# Altium footprint library SecureBot.PcbLib: 71 footprints (part 2 of 5)
Each footprint in its own frame and in the unit in brackets; x right, y up, seen from the top. Pads: shape width x height; smd on the part's side, far side on the other; paste and mask are expansions set on the pad; w line width, h text height; cw(c..) or ccw(c..) is an arc to the next point about the centre after c.
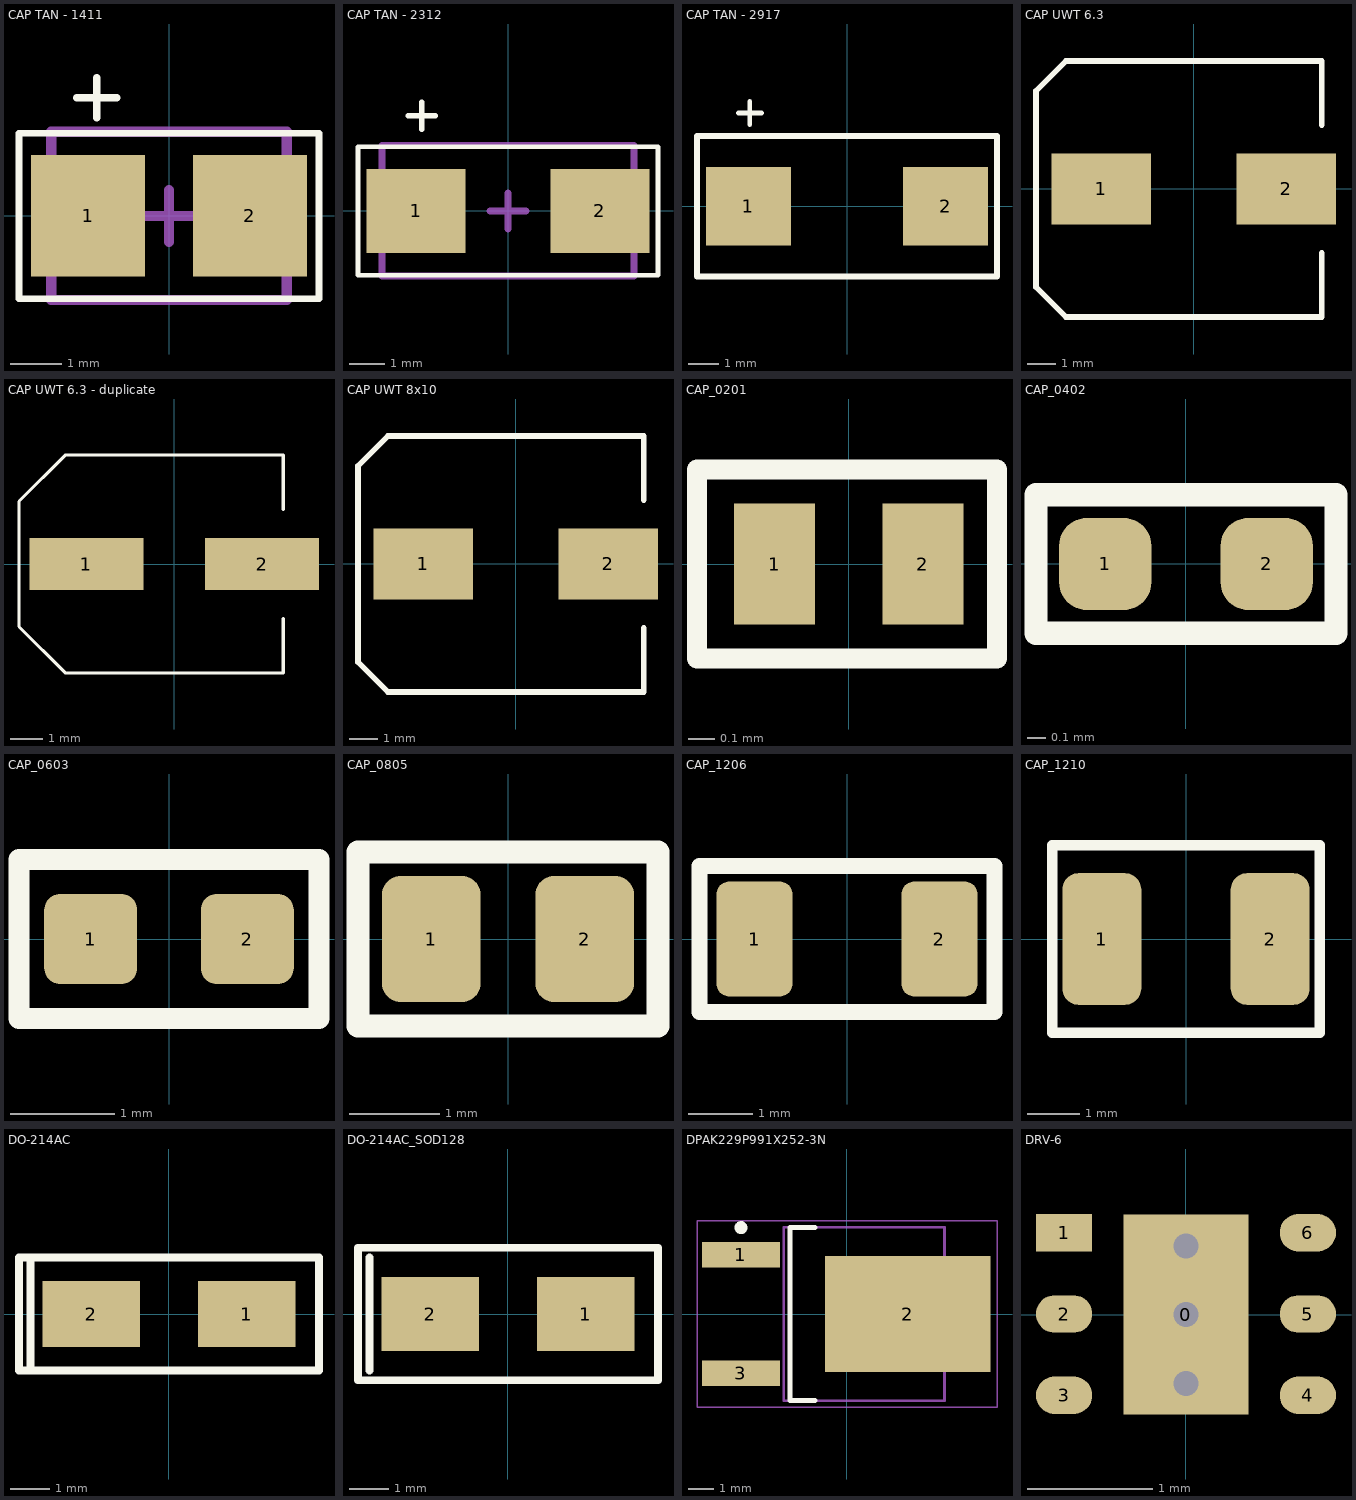
[diagram p1: the footprints below, top view; thin cyan lines are the x and y axes]

## CAP TAN - 1411 [mm]
pads (2):
  rect 2.21x2.35 smd: 1(-1.565,0) 2(1.565,0)
Top Overlay:
  lines w0.127: -2.9,-1.6 2.9,-1.6 2.9,1.6 -2.9,1.6 -2.9,-1.6
  lines w0.152: -1.778,2.286 -1.016,2.286 ; -1.397,1.905 -1.397,2.667
Mechanical 1:
  lines w0.2: -0.5,0 0,0 ; 0,-0.5 0,0 ; 0,0.5 0,0 ; 0.5,0 0,0 ; -2.275,-1.625 2.275,-1.625 2.275,1.625 -2.275,1.625 -2.275,-1.625
3D body "User Library-QT02752.step": height 1.92, standoff 0.01, extent -1.831,-1.4 1.832,1.4

## CAP TAN - 2312 [mm]
pads (2):
  rect 2.77x2.35 smd: 1(-2.57,0) 2(2.57,0)
Top Overlay:
  lines w0.127: -4.2,-1.8 4.2,-1.8 4.2,1.8 -4.2,1.8 -4.2,-1.8
  lines w0.152: -2.794,2.667 -2.032,2.667 ; -2.413,2.286 -2.413,3.048
Mechanical 1:
  lines w0.2: -0.5,0 0,0 ; 0,-0.5 0,0 ; 0,0.5 0,0 ; 0.5,0 0,0 ; -3.525,-1.825 3.525,-1.825 3.525,1.825 -3.525,1.825 -3.525,-1.825
3D body "User Library-C_case.STEP": height 2.7, standoff 0, extent -3.05,-1.675 3.05,1.675

## CAP TAN - 2917 [mm]
pads (2):
  rect 2.77x2.55 smd: 1(-3.22,0)
  rect 2.77x2.55 smd paste-0.3 mask-0.11: 2(3.22,0)
Top Overlay:
  lines w0.152: -3.556,3.048 -2.794,3.048 ; -3.175,2.667 -3.175,3.429
  lines w0.2: -4.9,-2.3 -4.9,2.3 4.9,2.3 4.9,-2.3 -4.9,-2.3
3D body "CapTantCASE_D.step": height 3.1, standoff 0, extent -3.673,-2.3 3.927,2.3

## CAP UWT 6.3 [mm]
pads (2):
  rect 3.5x2.5 smd: 1(-3.25,0) 2(3.25,0)
Top Overlay:
  lines w0.2: 4.5,-2.25 4.5,-4.5 -4.5,-4.5 -5.55,-3.45 -5.55,3.45 -4.5,4.5 4.5,4.5 4.5,2.25

## CAP UWT 6.3 - duplicate [mm]
pads (2):
  rect 3.5x1.6 smd: 1(-2.7,0) 2(2.7,0)
Top Overlay:
  lines w0.1: 3.35,-1.675 3.35,-3.35 -3.35,-3.35 -4.775,-1.925 -4.775,1.925 -3.35,3.35 3.35,3.35 3.35,1.675

## CAP UWT 8x10 [mm]
pads (2):
  rect 3.5x2.5 smd: 1(-3.25,0) 2(3.25,0)
Top Overlay:
  lines w0.2: 4.5,-2.25 4.5,-4.5 -4.5,-4.5 -5.55,-3.45 -5.55,3.45 -4.5,4.5 4.5,4.5 4.5,2.25

## CAP_0201 [mil]
pads (2):
  rect 12x18 smd: 1(-11,0) 2(11,0)
Top Overlay:
  lines w3: -22.5,-14 -22.5,14 22,14 22,-14 -22.5,-14
3D body "Cap0201.step": height 11.81, standoff 0, extent -11.81,-5.81 11.81,6

## CAP_0402 [mil]
pads (2):
  rrect60% 20x20 smd: 1(-17.5,0) 2(17.5,0)
Top Overlay:
  lines w5: -32.5,-15 32.5,-15 32.5,15 -32.5,15 -32.5,-15
3D body "Cap0402.step": height 19.68, standoff 0, extent -19.37,-9.69 20,10

## CAP_0603 [mil]
pads (2):
  rrect35% 35x34 smd: 1(-29.5,0) 2(29.5,0)
Top Overlay:
  lines w7.87: -56.5,-30 -56.5,30 56.5,30 56.5,-30 -56.5,-30
3D body "Cap0603.step": height 35.43, standoff 0, extent -31.5,-15.75 31.49,15.75

## CAP_0805 [mil]
pads (2):
  rrect37% 43x55 smd: 1(-33.5,0) 2(33.5,0)
Top Overlay:
  lines w10: -65.5,-38 -65.5,38 65.5,38 65.5,-38 -65.5,-38
3D body "Cap0805.step": height 49.21, standoff 0, extent -38.74,-24.21 40,25

## CAP_1206 [mil]
pads (2):
  rrect34% 47x71 smd: 1(-57,0) 2(57,0)
Top Overlay:
  lines w10: -91,-45 91,-45 91,45 -91,45 -91,-45
3D body "Cap1206.step": height 49.21, standoff 0, extent -61.99,-30.99 64,32

## CAP_1210 [mm]
pads (2):
  rrect40% 1.5x2.5 smd: 1(-1.6,0) 2(1.6,0)
Top Overlay:
  lines w0.2: -2.54,-1.778 -2.54,1.778 2.54,1.778 2.54,-1.778 -2.54,-1.778
3D body "cap1210.step": height 2.5, standoff 0, extent -1.575,-1.245 1.625,1.255

## DO-214AC [mm]
pads (2):
  rect 2.5x1.7 smd: 1(2,0) 2(-2,0)
Top Overlay:
  lines w0.2: -3.556,-1.45 -3.556,1.45 ; -3.85,-1.45 -3.85,0 -3.85,1.45 3.85,1.45 3.85,-1.45 -3.85,-1.45

## DO-214AC_SOD128 [mm] "In between DO-214AC and SOD128 diode package for easy diode change"
pads (2):
  rect 2.5x1.9 smd: 1(2,0) 2(-2,0)
Top Overlay:
  lines w0.2: -3.556,-1.45 -3.556,1.45 ; -3.85,-1.7 -3.85,0 -3.85,1.7 3.85,1.7 3.85,-1.7 -3.85,-1.7

## DPAK229P991X252-3N [mm] "D-PAK, 3-Pads, Body 6,21x6,72mm (max), IPC Medium Density"
height 2.52
pads (3):
  rect 3x1 smd: 1(-4.1,2.29) 3(-4.1,-2.29)
  rect 6.4x4.5 smd: 2(2.35,0)
Top Overlay:
  circle w0.25: c-4.1,3.34 r0.125
  lines w0.2: -1.25,-3.35 -2.2,-3.35 -2.2,3.35 -1.25,3.35
Mechanical 13:
  lines w0.1: -2.45,-3.35 -2.45,3.35 3.77,3.35 3.77,-3.35 -2.45,-3.35
Mechanical 15:
  lines w0.05: -5.8,-3.6 -5.8,3.6 5.8,3.6 5.8,-3.6 -5.8,-3.6
  lines w0.1: -0.5,0 0.5,0 ; 0,-0.5 0,0.5
3D body "DPAK229P991X252-3N.step": height 2.52, standoff 0, extent -4.55,-3.35 5.355,3.35

## DRV-6 [mm]
pads (7):
  rect 1x1.6 smd: 0(0,0)
  rect 0.45x0.3 smd: 1(-0.975,0.654)
  oval 0.45x0.3 smd: 2(-0.975,0.004) 3(-0.975,-0.646) 4(0.975,-0.646) 5(0.975,0.004) 6(0.975,0.654)
via 0,0 diameter 0.33 hole 0.2
via 0,-0.55 diameter 0.33 hole 0.2
via 0,0.55 diameter 0.33 hole 0.2